# EAGLE library part PINHD-2X12/SMD (library headers)
23 pin 2 row smd 0.100 pitch header
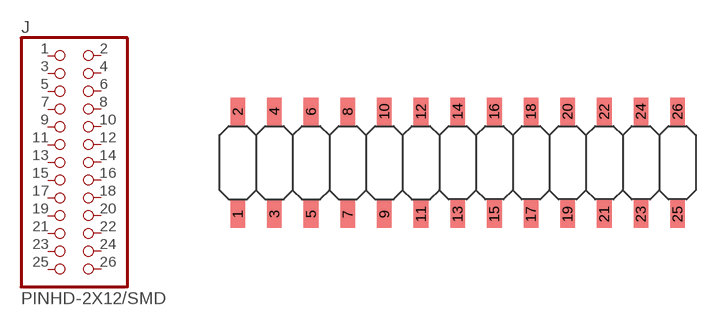
[diagram p0: symbol with the pads of 2X13/SMD; footprint 2X13/SMD]

Designator prefix J

## PINHD-2X12/SMD  [2X13/SMD]
1  1  pas
2  2  pas
3  3  pas
4  4  pas
5  5  pas
6  6  pas
7  7  pas
8  8  pas
9  9  pas
10  10  pas
11  11  pas
12  12  pas
13  13  pas
14  14  pas
15  15  pas
16  16  pas
17  17  pas
18  18  pas
19  19  pas
20  20  pas
21  21  pas
22  22  pas
23  23  pas
24  24  pas
25  25  pas
26  26  pas

## Footprint 2X13/SMD (pad centres in mm)
smd 1.016 x 1.905: 1 -15.24,-3.556; 2 -15.24,3.556; 3 -12.7,-3.556; 4 -12.7,3.556; 5 -10.16,-3.556; 6 -10.16,3.556; 7 -7.62,-3.556; 8 -7.62,3.556; 9 -5.08,-3.556; 10 -5.08,3.556; 11 -2.54,-3.556; 12 -2.54,3.556; 13 0,-3.556; 14 0,3.556; 15 2.54,-3.556; 16 2.54,3.556; 17 5.08,-3.556; 18 5.08,3.556; 19 7.62,-3.556; 20 7.62,3.556; 21 10.16,-3.556; 22 10.16,3.556; 23 12.7,-3.556; 24 12.7,3.556; 25 15.24,-3.556; 26 15.24,3.556